# Altium schematic symbol library SCH - MCU - STM32 - ST MICROELECTRONICS STM32L443RCYX WLCSP64.SchLib: 1 symbol
Pins are listed as number, name and electrical type; pins without a type are passive.

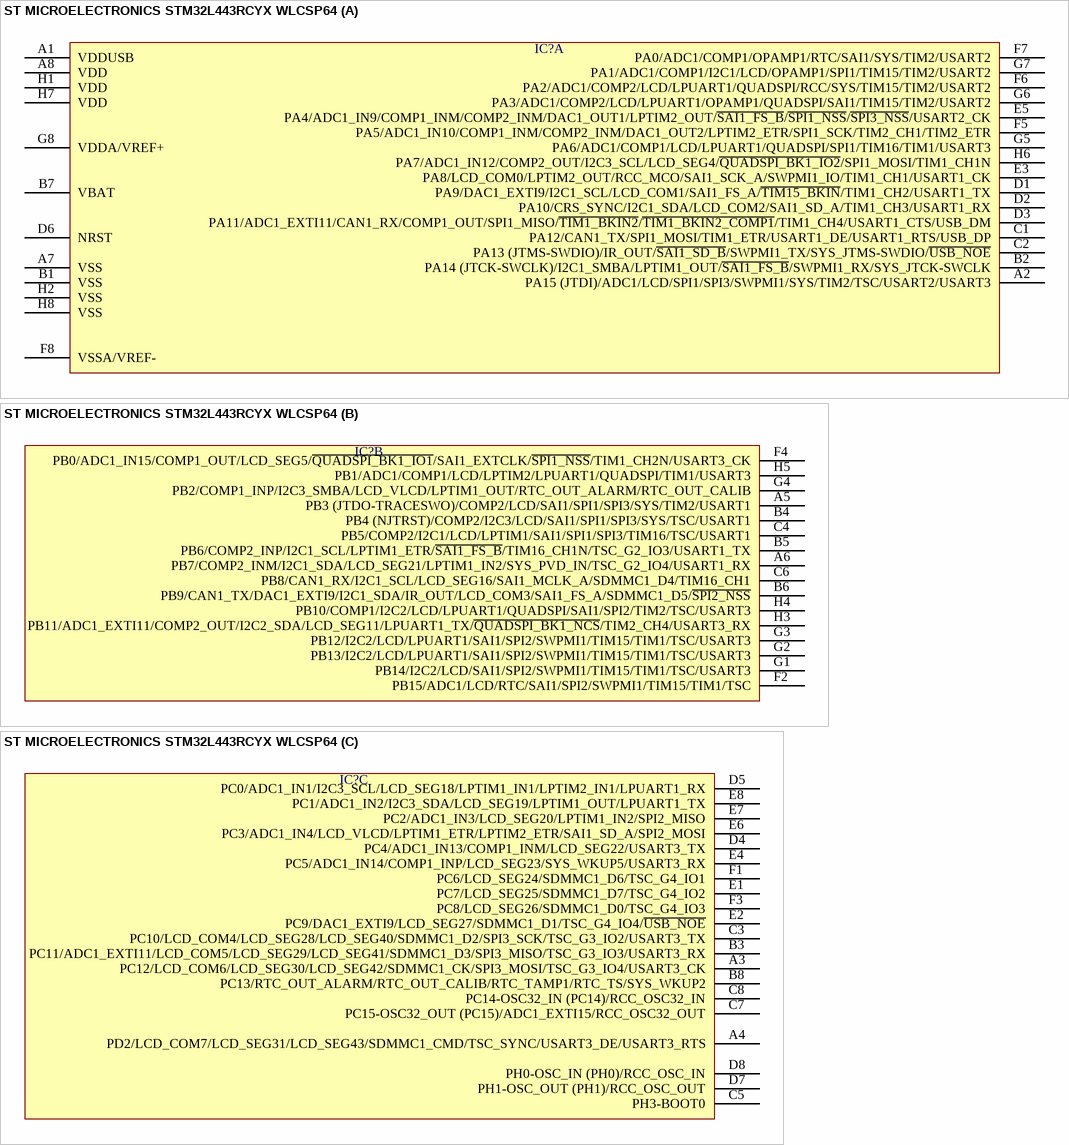
[diagram p0: symbol ST MICROELECTRONICS STM32L443RCYX WLCSP64]

## ST MICROELECTRONICS STM32L443RCYX WLCSP64
designator IC?  (value not drawn)
part A pins: A1 VDDUSB, A2 PA15 (JTDI)/ADC1/LCD/SPI1/SPI3/SWPMI1/SYS/TIM2/TSC/USART2/USART3, A7 VSS, A8 VDD, B1 VSS, B2 PA14 (JTCK-SWCLK)/I2C1_SMBA/LPTIM1_OUT/~{SAI1_FS_B}/SWPMI1_RX/SYS_JTCK-SWCLK, B7 VBAT, C1 PA12/CAN1_TX/SPI1_MOSI/TIM1_ETR/USART1_DE/USART1_RTS/USB_DP, C2 PA13 (JTMS-SWDIO)/IR_OUT/~{SAI1_SD_B}/SWPMI1_TX/SYS_JTMS-SWDIO/~{USB_NOE}, D1 PA9/DAC1_EXTI9/I2C1_SCL/LCD_COM1/SAI1_FS_A/~{TIM15_BKIN}/TIM1_CH2/USART1_TX, D2 PA10/CRS_SYNC/I2C1_SDA/LCD_COM2/SAI1_SD_A/TIM1_CH3/USART1_RX, D3 PA11/ADC1_EXTI11/CAN1_RX/COMP1_OUT/SPI1_MISO/~{TIM1_BKIN2}/~{TIM1_BKIN2_COMP1}/TIM1_CH4/USART1_CTS/USB_DM, D6 NRST, E3 PA8/LCD_COM0/LPTIM2_OUT/RCC_MCO/SAI1_SCK_A/SWPMI1_IO/TIM1_CH1/USART1_CK, E5 PA4/ADC1_IN9/COMP1_INM/COMP2_INM/DAC1_OUT1/LPTIM2_OUT/~{SAI1_FS_B}/~{SPI1_NSS}/~{SPI3_NSS}/USART2_CK, F5 PA5/ADC1_IN10/COMP1_INM/COMP2_INM/DAC1_OUT2/LPTIM2_ETR/SPI1_SCK/TIM2_CH1/TIM2_ETR, F6 PA2/ADC1/COMP2/LCD/LPUART1/QUADSPI/RCC/SYS/TIM15/TIM2/USART2, F7 PA0/ADC1/COMP1/OPAMP1/RTC/SAI1/SYS/TIM2/USART2, F8 VSSA/VREF-, G5 PA6/ADC1/COMP1/LCD/LPUART1/QUADSPI/SPI1/TIM16/TIM1/USART3, G6 PA3/ADC1/COMP2/LCD/LPUART1/OPAMP1/QUADSPI/SAI1/TIM15/TIM2/USART2, G7 PA1/ADC1/COMP1/I2C1/LCD/OPAMP1/SPI1/TIM15/TIM2/USART2, G8 VDDA/VREF+, H1 VDD, H2 VSS, H6 PA7/ADC1_IN12/COMP2_OUT/I2C3_SCL/LCD_SEG4/~{QUADSPI_BK1_IO2}/SPI1_MOSI/TIM1_CH1N, H7 VDD, H8 VSS
part B pins: A5 PB3 (JTDO-TRACESWO)/COMP2/LCD/SAI1/SPI1/SPI3/SYS/TIM2/USART1, A6 PB7/COMP2_INM/I2C1_SDA/LCD_SEG21/LPTIM1_IN2/SYS_PVD_IN/TSC_G2_IO4/USART1_RX, B4 PB4 (NJTRST)/COMP2/I2C3/LCD/SAI1/SPI1/SPI3/SYS/TSC/USART1, B5 PB6/COMP2_INP/I2C1_SCL/LPTIM1_ETR/~{SAI1_FS_B}/TIM16_CH1N/TSC_G2_IO3/USART1_TX, B6 PB9/CAN1_TX/DAC1_EXTI9/I2C1_SDA/IR_OUT/LCD_COM3/SAI1_FS_A/SDMMC1_D5/~{SPI2_NSS}, C4 PB5/COMP2/I2C1/LCD/LPTIM1/SAI1/SPI1/SPI3/TIM16/TSC/USART1, C6 PB8/CAN1_RX/I2C1_SCL/LCD_SEG16/SAI1_MCLK_A/SDMMC1_D4/TIM16_CH1, F2 PB15/ADC1/LCD/RTC/SAI1/SPI2/SWPMI1/TIM15/TIM1/TSC, F4 PB0/ADC1_IN15/COMP1_OUT/LCD_SEG5/~{QUADSPI_BK1_IO1}/SAI1_EXTCLK/~{SPI1_NSS}/TIM1_CH2N/USART3_CK, G1 PB14/I2C2/LCD/SAI1/SPI2/SWPMI1/TIM15/TIM1/TSC/USART3, G2 PB13/I2C2/LCD/LPUART1/SAI1/SPI2/SWPMI1/TIM15/TIM1/TSC/USART3, G3 PB12/I2C2/LCD/LPUART1/SAI1/SPI2/SWPMI1/TIM15/TIM1/TSC/USART3, G4 PB2/COMP1_INP/I2C3_SMBA/LCD_VLCD/LPTIM1_OUT/RTC_OUT_ALARM/RTC_OUT_CALIB, H3 PB11/ADC1_EXTI11/COMP2_OUT/I2C2_SDA/LCD_SEG11/LPUART1_TX/~{QUADSPI_BK1_NCS}/TIM2_CH4/USART3_RX, H4 PB10/COMP1/I2C2/LCD/LPUART1/QUADSPI/SAI1/SPI2/TIM2/TSC/USART3, H5 PB1/ADC1/COMP1/LCD/LPTIM2/LPUART1/QUADSPI/TIM1/USART3
part C pins: A3 PC12/LCD_COM6/LCD_SEG30/LCD_SEG42/SDMMC1_CK/SPI3_MOSI/TSC_G3_IO4/USART3_CK, A4 PD2/LCD_COM7/LCD_SEG31/LCD_SEG43/SDMMC1_CMD/TSC_SYNC/USART3_DE/USART3_RTS, B3 PC11/ADC1_EXTI11/LCD_COM5/LCD_SEG29/LCD_SEG41/SDMMC1_D3/SPI3_MISO/TSC_G3_IO3/USART3_RX, B8 PC13/RTC_OUT_ALARM/RTC_OUT_CALIB/RTC_TAMP1/RTC_TS/SYS_WKUP2, C3 PC10/LCD_COM4/LCD_SEG28/LCD_SEG40/SDMMC1_D2/SPI3_SCK/TSC_G3_IO2/USART3_TX, C5 PH3-BOOT0, C7 PC15-OSC32_OUT (PC15)/ADC1_EXTI15/RCC_OSC32_OUT, C8 PC14-OSC32_IN (PC14)/RCC_OSC32_IN, D4 PC4/ADC1_IN13/COMP1_INM/LCD_SEG22/USART3_TX, D5 PC0/ADC1_IN1/I2C3_SCL/LCD_SEG18/LPTIM1_IN1/LPTIM2_IN1/LPUART1_RX, D7 PH1-OSC_OUT (PH1)/RCC_OSC_OUT, D8 PH0-OSC_IN (PH0)/RCC_OSC_IN, E1 PC7/LCD_SEG25/SDMMC1_D7/TSC_G4_IO2, E2 PC9/DAC1_EXTI9/LCD_SEG27/SDMMC1_D1/TSC_G4_IO4/~{USB_NOE}, E4 PC5/ADC1_IN14/COMP1_INP/LCD_SEG23/SYS_WKUP5/USART3_RX, E6 PC3/ADC1_IN4/LCD_VLCD/LPTIM1_ETR/LPTIM2_ETR/SAI1_SD_A/SPI2_MOSI, E7 PC2/ADC1_IN3/LCD_SEG20/LPTIM1_IN2/SPI2_MISO, E8 PC1/ADC1_IN2/I2C3_SDA/LCD_SEG19/LPTIM1_OUT/LPUART1_TX, F1 PC6/LCD_SEG24/SDMMC1_D6/TSC_G4_IO1, F3 PC8/LCD_SEG26/SDMMC1_D0/TSC_G4_IO3